# Altium footprint library 栅极驱动.PcbLib: 2 footprints
Each footprint in its own frame and in the unit in brackets; x right, y up, seen from the top. Pads: shape width x height; smd on the part's side, far side on the other; paste and mask are expansions set on the pad; w line width, h text height; cw(c..) or ccw(c..) is an arc to the next point about the centre after c.
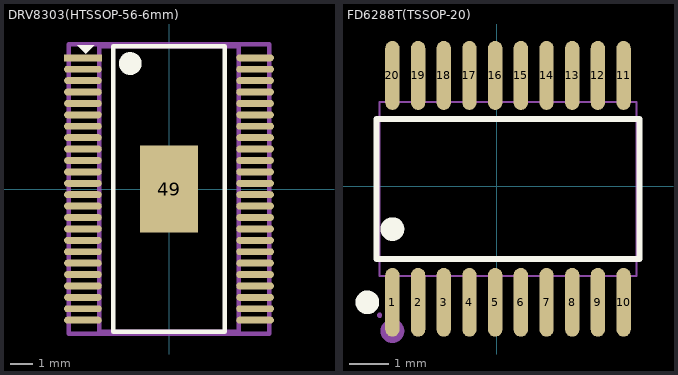
[diagram p0: the footprints below, top view; thin cyan lines are the x and y axes]

## DRV8303(HTSSOP-56-6mm) [mil]
height 59.06
pads (49):
  rect 65x12 smd paste+0 mask+0: 1(-148.55,226.38)
  rrect100% 65x12 smd paste+0 mask+0: 2(-148.55,206.69) 3(-148.55,187.01) 4(-148.55,167.32) 5(-148.55,147.64) 6(-148.55,127.95) 7(-148.55,108.27) 8(-148.55,88.58) 9(-148.55,68.9) 10(-148.55,49.21) 11(-148.55,29.53) 12(-148.55,9.84) 13(-148.55,-9.84) 14(-148.55,-29.53) 15(-148.55,-49.21) 16(-148.55,-68.9) 17(-148.55,-88.58) 18(-148.55,-108.27) 19(-148.55,-127.95) 20(-148.55,-147.64) 21(-148.55,-167.32) 22(-148.55,-187.01) 23(-148.55,-206.69) 24(-148.55,-226.38) 25(148.55,-226.38) 26(148.55,-206.69) 27(148.55,-187.01) 28(148.55,-167.32) 29(148.55,-147.64) 30(148.55,-127.95) 31(148.55,-108.27) 32(148.55,-88.58) 33(148.55,-68.9) 34(148.55,-49.21) 35(148.55,-29.53) 36(148.55,-9.84) 37(148.55,9.84) 38(148.55,29.53) 39(148.55,49.21) 40(148.55,68.9) 41(148.55,88.58) 42(148.55,108.27) 43(148.55,127.95) 44(148.55,147.64) 45(148.55,167.32) 46(148.55,187.01) 47(148.55,206.69) 48(148.55,226.38)
  rect 100x150 smd paste-39370.1 mask+0: 49(0,0)
Top Overlay:
  circle w19.68: c-66.84,216.54 r9.84
  region: -128.7,248.03 -143.7,233.03 -158.7,248.03
  lines w7.87: -96.36,-246.06 -96.36,246.06 96.36,246.06 96.36,-246.06 -96.36,-246.06
Top Paste:
  rectangle: -40.44,-58.95 40.45,58.95
Mechanical 10:
  lines w7.87: -173.35,-250 -173.35,250 173.35,250 173.35,-250 -173.35,-250
  text ".Designator" at 113.72,84.32 h30
Mechanical 12:
  lines w7.87: -120.08,-246.06 -120.08,246.06 120.08,246.06 120.08,-246.06 -120.08,-246.06
Mechanical 15:
  lines w3.94: -19.68,0 19.69,0 ; 0,-19.69 0,19.68
  lines w7.87: -173.35,-250 -173.35,250 173.35,250 173.35,-250 -173.35,-250
3D body "IC_Texas_Instruments_DRV8303DCA_eec.STEP": height 10, standoff 0, extent -173.35,-250 173.35,250

## FD6288T(TSSOP-20) [mil]
pads (20):
  oval 14.33x68.58 smd: 1(-104.12,-115.39) 2(-78.53,-115.39) 3(-52.94,-115.39) 4(-27.35,-115.39) 5(-1.75,-115.39) 6(23.84,-115.39) 7(49.43,-115.39) 8(75.02,-115.39) 9(100.61,-115.39) 10(126.2,-115.39) 11(126.2,110.67) 12(100.61,110.67) 13(75.02,110.67) 14(49.43,110.67) 15(23.84,110.67) 16(-1.75,110.67) 17(-27.35,110.67) 18(-52.94,110.67) 19(-78.53,110.67) 20(-104.12,110.67)
Top Overlay:
  circle w11.81: c-104.12,-42.48 r5.91
  circle w11.81: c-129.09,-115.39 r5.91
  lines w6: -119.91,-72.1 -119.91,67.38 141.99,67.38 141.99,-72.1 -119.91,-72.1
Mechanical 6:
  circle w11.81: c-104.12,-144.09 r5.91
Mechanical 15:
  drawing of 45 lines, arcs and shapes, not listed